# Altium schematic symbol library Schlib1.SchLib: 45 symbols
Pins are listed as number, name and electrical type; pins without a type are passive.

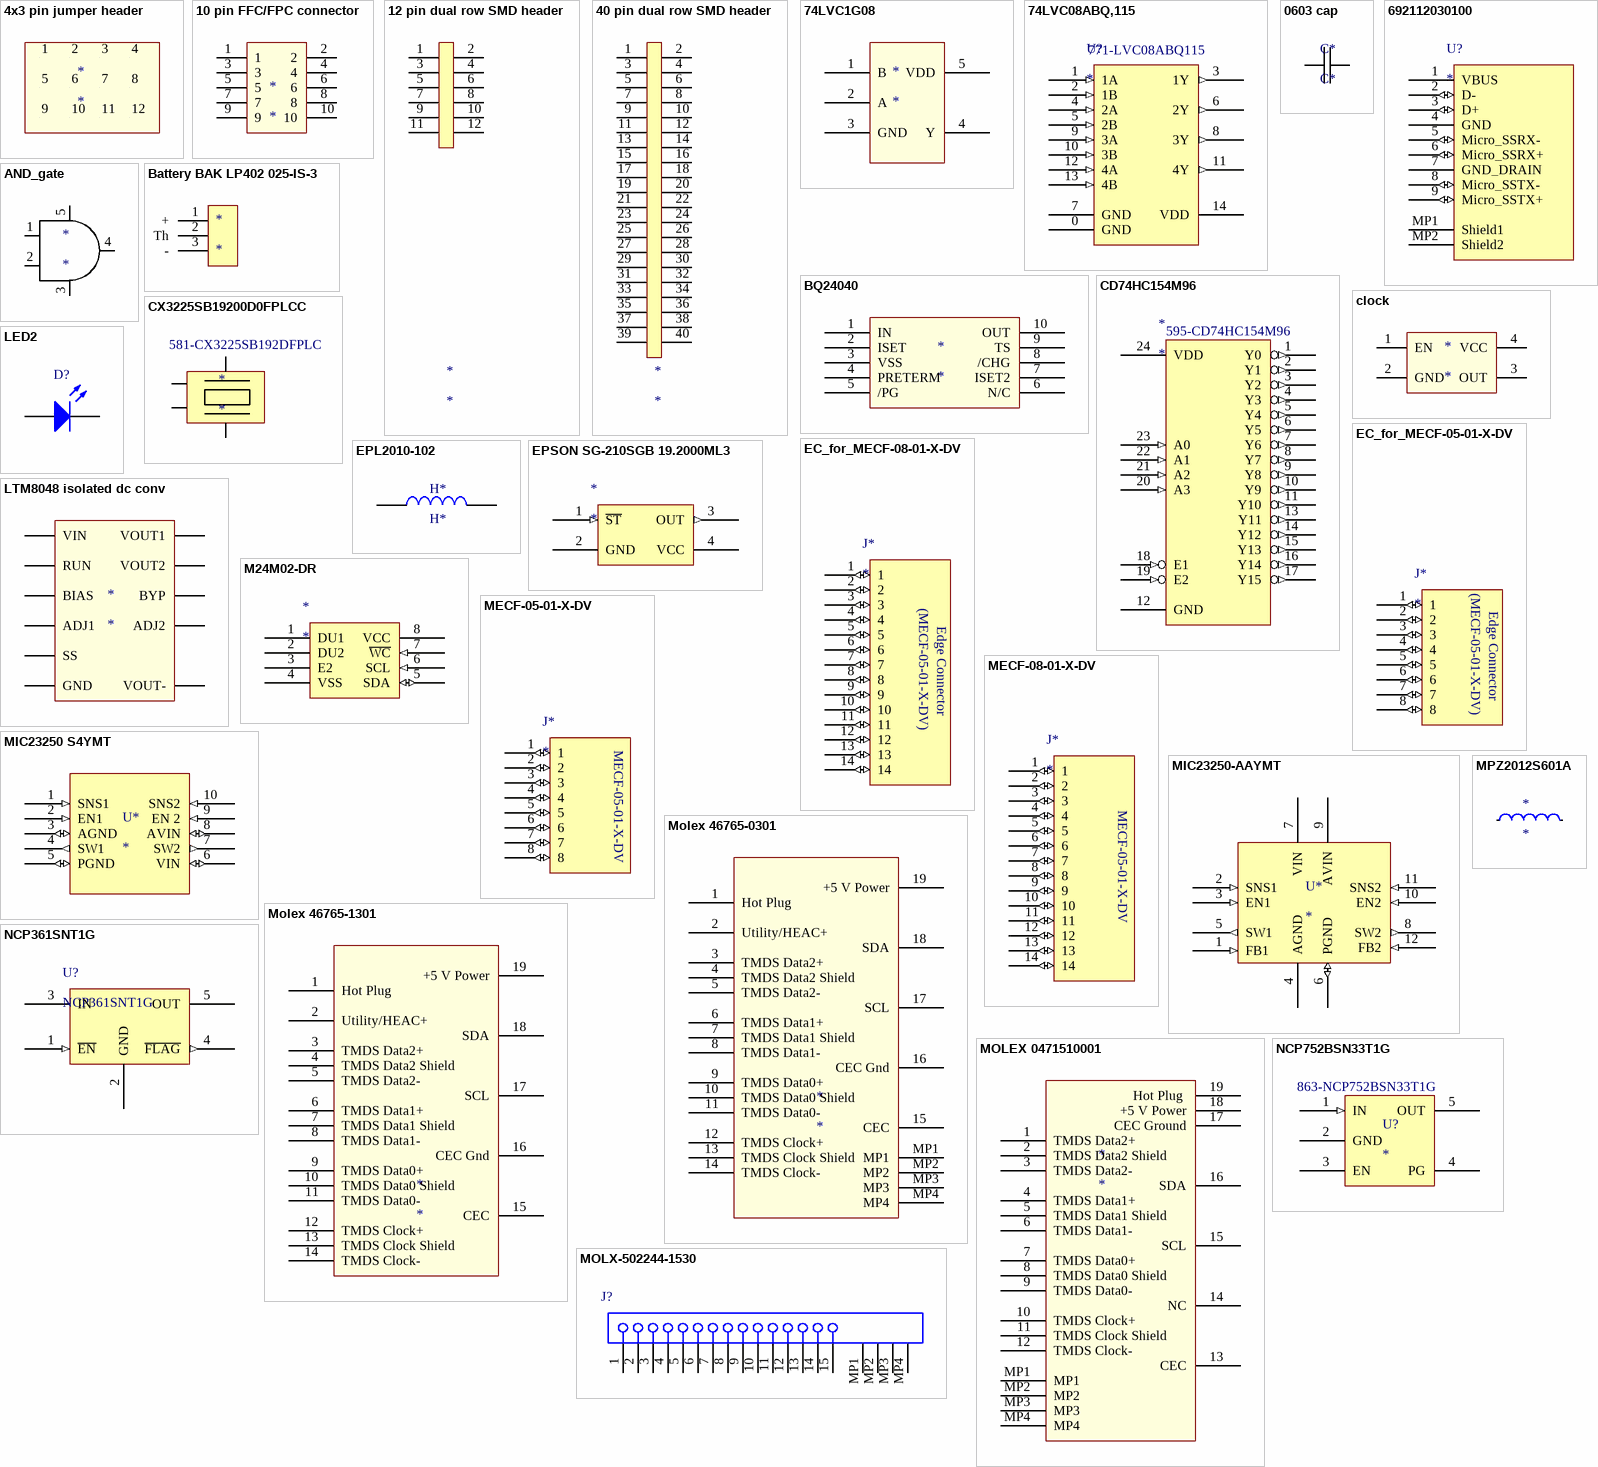
[diagram p0: symbols 4x3 pin jumper header to NCP752BSN33T1G]

## 4x3 pin jumper header
designator *
footprint 4x3 pin jumper header
pins: 1, 2, 3, 4, 5, 6, 7, 8, 9, 10, 11, 12

## 10 pin FFC/FPC connector
designator *
footprint 10 FFC/FPC connector 0.5mm pitch (HIROSE(HRS)  FH34SRJ-10S-0.5SH(50)  CONNECTOR, FFC/FPC, RCPT, 10POS, 1ROW)
pins: 1, 2, 3, 4, 5, 6, 7, 8, 9, 10

## 12 pin dual row SMD header
designator *
header
footprint TSM-106-01-S-DH (12 pin surface mount right angle header)
pins: 1, 2, 3, 4, 5, 6, 7, 8, 9, 10, 11, 12

## 40 pin dual row SMD header
designator *
header
footprint TSM-120-01-L-DH (40 pin surface mount right angle header)
pins: 1, 2, 3, 4, 5, 6, 7, 8, 9, 10, 11, 12, 13, 14, 15, 16, 17, 18, 19, 20, 21, 22, 23, 24, 25, 26, 27, 28, 29, 30, 31, 32, 33, 34, 35, 36, 37, 38, 39, 40

## 74LVC1G08
designator *
single 2 input and gate
footprint TSOP 5 AND (AND gate 74LVCIG08GW)
pins: 1 B "Input B", 2 A "Input B", 3 GND "Input B", 4 Y "Input B", 5 VDD "Input B"

## 74LVC08ABQ,115
designator U?  Supplier Part Number 1: 771-LVC08ABQ115
Logic Gates QUAD 2-INPUT AND; Manufacturer: NXP Semiconductors; Manufacturer Part Number: 74LVC08ABQ,115; Logic Family: LVC; Number of Gates: 4 Gate; Number of Input Lines: 2; Number of Output Lines: 1 Output; High Level Output Current: - 24 mA; Low Level Output Current: 24 mA; Propagation Delay Time: 2.1 ns; Supply Voltage - Max: 3.6 V; Supply Voltage - Min: 1.2 V; Supplier 1: Mouser; RoHS: RoHS Compliant; Category: Logic Gates; Stock 1: 3137; Pricing 1: 1=0.608, 10=0.418, 100=0.240, 1000=0.171, 3000=0.155, 9000=0.144, 24000=0.133, 45000=0.128, 99000=0.123 (AUD); Package / Case: SOT-762; Packaging: Reel; Product: Single-Function Gate; Brand: NXP Semiconductors; Mounting Style: SMD/SMT; Logic Function: AND; Maximum Operating Temperature: + 125 C; Minimum Operating Temperature: - 40 C; Product Category: Logic - Gates & Inverters; Standard Pack Qty: 3000; RoHS - Mouser: Y; Minimum Order Quantity: 1; Reeling: True; ComponentLink1URL: http://www.mouser.com/ds/2/302/74LVC08A-351060.pdf; ComponentLink1Description: http://www.mouser.com/ds/2/302/74LVC08A-351060.pdf
footprint SOT-762 (DHVQFN14: plastic dual in-line compatible thermal enhanced very thin quad flat package; no leads;  14 terminals; body 2.5 x 3 x 0.85 mm)
pins: 0 GND (power), 1 1A (in), 2 1B (in), 3 1Y (out), 4 2A (in), 5 2B (in), 6 2Y (out), 7 GND (power), 8 3Y (out), 9 3A (in), 10 3B (in), 11 4Y (out), 12 4A (in), 13 4B (in), 14 VDD (power)

## 0603 cap
designator C*, comment C*
Value: *
footprint 0603 (0603 metric pad)
pins: 1, 2

## 692112030100
designator U?
USB Connectors WR-COM 3.0 TypeA SMT 9Pin Hztl Male WClip; Manufacturer: Wurth Electronics; Manufacturer Part Number: 692112030100; Connector Type: USB Type A Plug; Current Rating: 1.8 A; Mounting Angle: Horizontal; Number of Contacts: 9 Contact; Voltage Rating: 30 VAC; Number of Ports: 1 Port; Insulation Resistance: 100 MOhms; Product Status: New Technology; Supplier 1: Mouser; RoHS: RoHS Compliant; Category: USB Connectors; Stock 1: 364; Pricing 1: 1=5.46, 10=4.74, 20=4.72, 50=4.46, 100=4.02, 200=3.84, 500=3.65, 1000=3.55, 2000=3.38 (AUD); Color: Blue; Contact Plating: Gold; Gender: Male; Operating Temperature Range: - 20 C to + 85 C; Packaging: Tray; Product: USB Type A Connectors; Series: WR-COM; Termination Style: SMD; Brand: Wurth Electronics; Contact Material: Phosphor Bronze; Flammability Rating: UL 94 V-0; Mounting Style: Panel; Standard: USB 3.0; RoHS - Mouser: Y; Minimum Order Quantity: 1; Reeling: False; ComponentLink1URL: http://www.mouser.com/ds/2/445/692112030100-471927.pdf; ComponentLink1Description: http://www.mouser.com/ds/2/445/692112030100-471927.pdf
footprint USB 3.0 Connectors Type A (USB connectors for 3.0 Type A 9 pin. Male)
pins: 1 VBUS (power), 2 D- (io), 3 D+ (io), 4 GND (power), 5 Micro_SSRX- (io), 6 Micro_SSRX+ (io), 7 GND_DRAIN (power), 8 Micro_SSTX- (io), 9 Micro_SSTX+ (io), MP1 Shield1, MP2 Shield2

## AND_gate
designator *
footprint TSOP5
pins: 1 B "data input", 2 A "data input", 3 GND "ground (0 V)", 4 Y "data output", 5 VCC "supply voltage"

## Battery BAK LP402 025-IS-3
designator *
3.7V lithium polymer battery 165mAh
footprint LP 402 025 (BAK Battery 165mAh)
footprint 3 p in smd header (TSM-103-01-L-SH)
pins: 1 + "positive terminal", 2 Th "Input 1", 3 - "Input 1"

## BQ24040
designator *
Single i/p single cell li-ion / li-pol battery charge
footprint SOIC 10  - BQ24040 (Battery charger IC BQ24040)
pins: 1 IN "Input power. decoupling capacitor of 1 - 10 uF required", 2 ISET "Set fast charge current (resistor to gnd)", 3 VSS "battery gnd terminal", 4 PRETERM "Set current termination threshold (resistor to gnd)", 5 /PG "Low indicates input voltage is above UVLO &  batt voltage", 6 N/C "Input B", 7 ISET2 "Set input/op  current limit for the usb or adaptor source", 8 /CHG "low indicates charging. Open draain indicates no charging", 9 TS "Temperature sense terminal", 10 OUT "Battery connection. Decoupling of 1- 10uF expected"

## CD74HC154M96
designator *  Supplier Part Number 1: 595-CD74HC154M96
Encoders, Decoders, Multiplexers & Demultiplexers Hi-Spd CMOS 4-16 Ln Decoder/Demltplxr; Manufacturer: Texas Instruments; Manufacturer Part Number: CD74HC154M96; Logic Family: HC; Number of Input Lines: 4 Input; Number of Output Lines: 16 Output; Propagation Delay Time: 44 ns; Supply Voltage - Max: 6 V; Supply Voltage - Min: 2 V; Supplier 1: Mouser; RoHS: RoHS Compliant; Category: Encoders, Decoders, Multiplexers & Demultiplexers; Stock 1: 3056; Pricing 1: 1=1.09, 10=0.869, 100=0.648, 500=0.477, 1000=0.435, 2000=0.366, 10000=0.354, 24000=0.341, 50000=0.328 (AUD); Operating Temperature Range: - 55 C to + 125 C; Package / Case: SOIC-24; Packaging: Reel; Product: Decoders / Demultiplexers; Series: CD74HC154; Brand: Texas Instruments; Mounting Style: SMD/SMT; Maximum Operating Temperature: + 125 C; Minimum Operating Temperature: - 55 C; Product Category: Logic - Decoders, Encoders, and Multiplexers; Standard Pack Qty: 2000; RoHS - Mouser: Y; Minimum Order Quantity: 1; Reeling: True; ComponentLink1URL: http://www.mouser.com/ds/2/405/cd74hc154-404200.pdf; ComponentLink1Description: http://www.mouser.com/ds/2/405/cd74hc154-404200.pdf
footprint SOIC24
pins: 1 Y0 (out), 2 Y1 (out), 3 Y2 (out), 4 Y3 (out), 5 Y4 (out), 6 Y5 (out), 7 Y6 (out), 8 Y7 (out), 9 Y8 (out), 10 Y9 (out), 11 Y10 (out), 12 GND (power), 13 Y11 (out), 14 Y12 (out), 15 Y13 (out), 16 Y14 (out), 17 Y15 (out), 18 E1 (in), 19 E2 (in), 20 A3 (in), 21 A2 (in), 22 A1 (in), 23 A0 (in), 24 VDD (power)

## clock
designator *
footprint 7W-4.000MBA-T  1842132 TXC (4MHz clock)
pins: 1 EN, 2 GND, 3 OUT, 4 VCC

## CX3225SB19200D0FPLCC
designator *  Supplier Part Number 1: 581-CX3225SB192DFPLC
19.2MHz SMD Crystal; Manufacturer: AVX / Kyocera; Manufacturer Part Number: CX3225SB19200D0FPLCC; Frequency Stability: 15 PPM; Load Capacitance: 8 pF; Tolerance: 10 PPM; ESR: 80 Ohms; Case Height: 0.55 mm; Case Length: 3.2 mm; Case Width: 2.5 mm; Product Status: New at Mouser; Supplier 1: Mouser; RoHS: RoHS Compliant; Category: Crystals; Stock 1: 2512; Pricing 1: 1=1.22, 10=1.01, 100=0.896, 500=0.803, 1000=0.709, 3000=0.627, 9000=0.605, 24000=0.560 (AUD); Dimensions: 2.5 mm W x 3.2 mm L x 0.55 mm H; Frequency: 19.2 MHz; Operating Temperature Range: - 40 C to + 85 C; Package / Case: 3.2 mm x 2.5 mm; Packaging: Reel; Series: CX3225SB; Termination Style: SMD/SMT; Type: Surface Mount Crystal; Brand: AVX / Kyocera; Mounting Style: SMD/SMT; RoHS - Mouser: Y; Minimum Order Quantity: 1; Reeling: True; ComponentLink1URL: http://www.mouser.com/ds/2/40/cx3225sb_e-514166.pdf; ComponentLink1Description: http://www.mouser.com/ds/2/40/cx3225sb_e-514166.pdf
footprint Crystal 3225 (3.2mm x 2.5mm. Crystal Osc)
pins: 1, 2 (power) "GND", 3, 4 (power) "GND"

## EC_for_MECF-05-01-X-DV
designator J*
Edge Connector for Samtec MECF-05-01-X-DV
footprint Edge Connector for MECF-05-01-X-DV
pins: 1 (io), 2 (io), 3 (io), 4 (io), 5 (io), 6 (io), 7 (io), 8 (io)
text: (MECF-05-01-X-DV); Edge Connector

## EC_for_MECF-08-01-X-DV
designator J*
Edge Connector for Samtec MECF-08-01-X-DV
footprint Edge Connector for MECF-08-01-X-DV
pins: 1 (io), 2 (io), 3 (io), 4 (io), 5 (io), 6 (io), 7 (io), 8 (io), 9 (io), 10 (io), 11 (io), 12 (io), 13 (io), 14 (io)
text: (MECF-05-01-X-DV); Edge Connector

## EPL2010-102
designator H*, comment H*
1uH inductor
footprint EPL2010-102 (1uH SMD inductor EPL2010-102)
pins: 1, 2

## EPSON SG-210SGB 19.2000ML3
designator *
footprint SG-210S*B (CMOS Output CRYSTAL OSCILLATOR (SPXO))
pins: 1 ~{ST} (in) "Standby", 2 GND (power) "Ground", 3 OUT (out) "CLK OUT", 4 VCC (power)

## LED2
designator D?
Typical RED, GREEN, YELLOW, AMBER GaAs LED; Published: 8-Jun-2000; LatestRevisionDate: 17-Jul-2002; LatestRevisionNote: Re-released for DXP Platform.; PackageVersion: Feb-2002; PackageReference: 3.2X1.6X1.1; Publisher: Altium Limited; PackageDescription: SM LED; 2 Flat Leads
footprint LED 0610
pins: 1 A, 2 K

## LTM8048 isolated dc conv
designator *
footprint 45 pad BGA LTM8048 (LTM8048 isolated µModule DC/DC Converter   with LDO Post Regulator)
pins: A2 ADJ2, B2 BYP, F3 RUN, G7 ADJ1, GND, H5 BIAS, H6 SS, VIN, VOUT1, VOUT2, VOUT-

## M24M02-DR
designator *
Manufacturer: STMicroelectronics; Manufacturer Part Number: M24M02-DRMN6TP; Memory Size: 2 Mbit; Organization: 256 k x 8; Interface Type: Serial, 2-Wire, I2C; Supply Current - Max: 2.5 mA; Data Retention: 200 Years; Maximum Clock Frequency: 1 MHz; Operating Supply Voltage: 1.8 V to 5.5 V; Supplier 1: Mouser; RoHS: RoHS Compliant; Category: EEPROM; Stock 1: 1850; Pricing 1: 1=7.17, 10=5.76, 100=5.12, 250=4.74, 500=4.26, 1000=3.58, 2500=3.41, 5000=3.28 (AUD); Package / Case: SO-8; Packaging: Reel; Series: M24M02-DR; Brand: STMicroelectronics; Mounting Style: SMD/SMT; Maximum Operating Temperature: + 85 C; Product Category: Serial EEPROMs; Standard Pack Qty: 2500; RoHS - Mouser: Y; Minimum Order Quantity: 1; Reeling: True; ComponentLink1URL: http://www.mouser.com/ds/2/389/CD00290537-470808.pdf; ComponentLink1Description: http://www.mouser.com/ds/2/389/CD00290537-470808.pdf; Supplier Part Number 1: 511-M24M02-DRMN6TP
footprint SO8N
pins: 1 DU1, 2 DU2, 3 E2 "Chip Enable", 4 VSS (power), 5 SDA (io), 6 SCL (in), 7 ~{WC} (in), 8 VCC (power)

## MECF-05-01-X-DV
designator J*
Samtec MECF-05-01-X-DV
footprint MECF-05-01-X-DV (Samtec MECF-05-01-X-DV)
pins: 1 (io), 2 (io), 3 (io), 4 (io), 5 (io), 6 (io), 7 (io), 8 (io)

## MECF-08-01-X-DV
designator J*
Samtec MECF-08-01-X-DV
footprint MECF-08-01-X-DV (Samtec MECF-08-01-X-DV)
pins: 1 (io), 2 (io), 3 (io), 4 (io), 5 (io), 6 (io), 7 (io), 8 (io), 9 (io), 10 (io), 11 (io), 12 (io), 13 (io), 14 (io)
text: MECF-05-01-X-DV

## MIC23250 S4YMT
designator U*
Light load dual buck converter
footprint Model Name (Footprint not found)
footprint MLF10 (MIC23250 light load buck converter 2 output)
pins: 1 SNS1 (in) "error amplifier input 1", 2 EN1 (in) "enable 1", 3 AGND (io) "analog gnd", 4 SW1 (out) "switch node 1", 5 PGND (io) "Power ground", 6 VIN (io) "supply voltage", 7 SW2 (out) "switch node 2", 8 AVIN (io) "Analog power input", 9 EN 2 (in) "enable 2", 10 SNS2 (in) "error amplifier input 2"

## MIC23250-AAYMT
designator U*
MIC23250 Dual dc converter
footprint MFL12 or SON12 (MIC23250 Adjustable dual dc - dc converter)
pins: 1 FB1 (in) "error amplifier input 1", 2 SNS1 (in) "enable 1", 3 EN1 (in) "analog gnd", 4 AGND (power) "switch node 1", 5 SW1 (out) "Power ground", 6 PGND (io) "supply voltage", 7 VIN (power) "switch node 2", 8 SW2 (out) "Analog power input", 9 AVIN (power) "enable 2", 10 EN2 (in) "error amplifier input 2", 11 SNS2 (in), 12 FB2 (in)

## Molex 46765-0301
designator *
Micro HDMI
footprint MOLEX 0467650301 (Micro HDMI without holes)
pins: 1 Hot Plug , 2 Utility/HEAC+ "N.C. on device", 3 TMDS Data2+, 4 TMDS Data2 Shield, 5 TMDS Data2-, 6 TMDS Data1+, 7 TMDS Data1 Shield, 8 TMDS Data1-, 9 TMDS Data0+, 10 TMDS Data0 Shield, 11 TMDS Data0-, 12 TMDS Clock+, 13 TMDS Clock Shield, 14 TMDS Clock-, 15 CEC "control", 16 CEC Gnd, 17 SCL "DDC clock", 18 SDA "DDC data", 19 +5 V Power "power EDID/DDC", MP1, MP2, MP3, MP4

## Molex 46765-1301
designator *
Micro HDMI
footprint Molex 46765-1301 (Micro HDMI)
pins: 1 Hot Plug , 2 Utility/HEAC+ "N.C. on device", 3 TMDS Data2+, 4 TMDS Data2 Shield, 5 TMDS Data2-, 6 TMDS Data1+, 7 TMDS Data1 Shield, 8 TMDS Data1-, 9 TMDS Data0+, 10 TMDS Data0 Shield, 11 TMDS Data0-, 12 TMDS Clock+, 13 TMDS Clock Shield, 14 TMDS Clock-, 15 CEC "control", 16 CEC Gnd, 17 SCL "DDC clock", 18 SDA "DDC data", 19 +5 V Power "power EDID/DDC"

## MOLEX 0471510001
designator *
MOLEX 0471510001 hdmi connector
footprint MOLEX 0471510001 (HDMI connector)
pins: 1 TMDS Data2+, 2 TMDS Data2 Shield, 3 TMDS Data2-, 4 TMDS Data1+, 5 TMDS Data1 Shield, 6 TMDS Data1-, 7 TMDS Data0+, 8 TMDS Data0 Shield, 9 TMDS Data0-, 10 TMDS Clock+, 11 TMDS Clock Shield, 12 TMDS Clock-, 13 CEC "control", 14 NC "N.C. on device", 15 SCL "DDC clock", 16 SDA "DDC data", 17 CEC Ground, 18 +5 V Power "power EDID/DDC", 19 Hot Plug , MP1 (power), MP2 (power), MP3 (power), MP4 (power)

## MOLX-502244-1530
designator J?
footprint MOLX-502244-1530 (FFC Connector, 15-Leads, Right Angle, Pitch 0.5 mm, Mated Height 2.33 mm, SMT)
pins: 1, 2, 3, 4, 5, 6, 7, 8, 9, 10, 11, 12, 13, 14, 15, MP1, MP2, MP3, MP4

## MPZ2012S601A
designator *
footprint 0805
pins: 1, 2

## NCP361SNT1G
designator U?
Current & Power Monitors & Regulators SBN POSITIVE OVP WITH OCP; Manufacturer: ON Semiconductor; Sensing Method: High Side; Input Voltage Range: 1.2 V to 20 V; Operating Supply Current: 20 uA; Supply Voltage - Max: 20 V; Supply Voltage - Min: 1.2 V; Supplier 1: Mouser; Manufacturer Part Number: NCP361SNT1G; RoHS: RoHS Compliant; Category: Current & Power Monitors & Regulators; Stock 1: 1757; Pricing 1: 1=1.15, 10=0.893, 100=0.576, 1000=0.461, 3000=0.389, 9000=0.374, 24000=0.360, 45000=0.354 (AUD); Operating Temperature Range: - 40 C to + 85 C; Package / Case: TSOP-5; Packaging: Reel; Product: Power Monitors; Series: NCP361; Brand: ON Semiconductor; Mounting Style: SMD/SMT; Product Category: Off-Line Controllers; Standard Pack Qty: 3000; RoHS - Mouser: Y; Minimum Order Quantity: 1; Reeling: True; ComponentLink1URL: http://www.mouser.com/ds/2/308/NCP361-D-60033.pdf; ComponentLink1Description: http://www.mouser.com/ds/2/308/NCP361-D-60033.pdf; Supplier Part Number 1: 863-NCP361SNT1G
footprint TSOP5
pins: 1 ~{EN} (in), 2 GND (power), 3 IN (power), 4 ~{FLAG} (out), 5 OUT (power)

## NCP752BSN33T1G
designator U?  Supplier Part Number 1: 863-NCP752BSN33T1G
LDO Voltage Regulators 200 MA LDO, ULTRA, LOW IQ; Manufacturer: ON Semiconductor; Manufacturer Part Number: NCP752BSN33T1G; Input Voltage MAX: 5.5 V; Number of Outputs: 1 Output; Output Current: 200 mA; Output Type: Fixed; Output Voltage: 3.3 V; Dropout Voltage - Max: 200 mV at 200 mA; PSRR / Ripple Rejection - Typ: 68 dB; Voltage Regulation Accuracy: 2 %; Input Voltage MIN: 2 V; Line Regulation: 300 uV/V; Load Regulation: 20 uV/mA; Operating Supply Current: 12 uA; Product Status: New at Mouser; Supplier 1: Mouser; RoHS: RoHS Compliant; Category: LDO Voltage Regulators; Stock 1: 2765; Pricing 1: 1=1.41, 10=1.09, 100=0.704, 1000=0.563, 3000=0.475, 9000=0.458, 24000=0.440 (AUD); Package / Case: TSOP-5; Packaging: Reel; Product: LDO Regulators; Series: NCP752; Type: Ultra Low Noise; Brand: ON Semiconductor; Mounting Style: SMD/SMT; Maximum Operating Temperature: + 125 C; Minimum Operating Temperature: - 40 C; RoHS - Mouser: Y; Minimum Order Quantity: 1; Reeling: True; ComponentLink1URL: http://www.mouser.com/ds/2/308/NCP752-D-364327.pdf; ComponentLink1Description: http://www.mouser.com/ds/2/308/NCP752-D-364327.pdf
footprint TSOP5
pins: 1 IN (in) "Input pin. A small capacitor is needed from this pin to ground to ensure stability", 2 GND "gnd", 3 EN "Enable", 4 PG "Power good (high impedance when power is good, short to gnd when power drops)", 5 OUT "regulated op. A small 1uF ceramic cap is needed to assure stability"

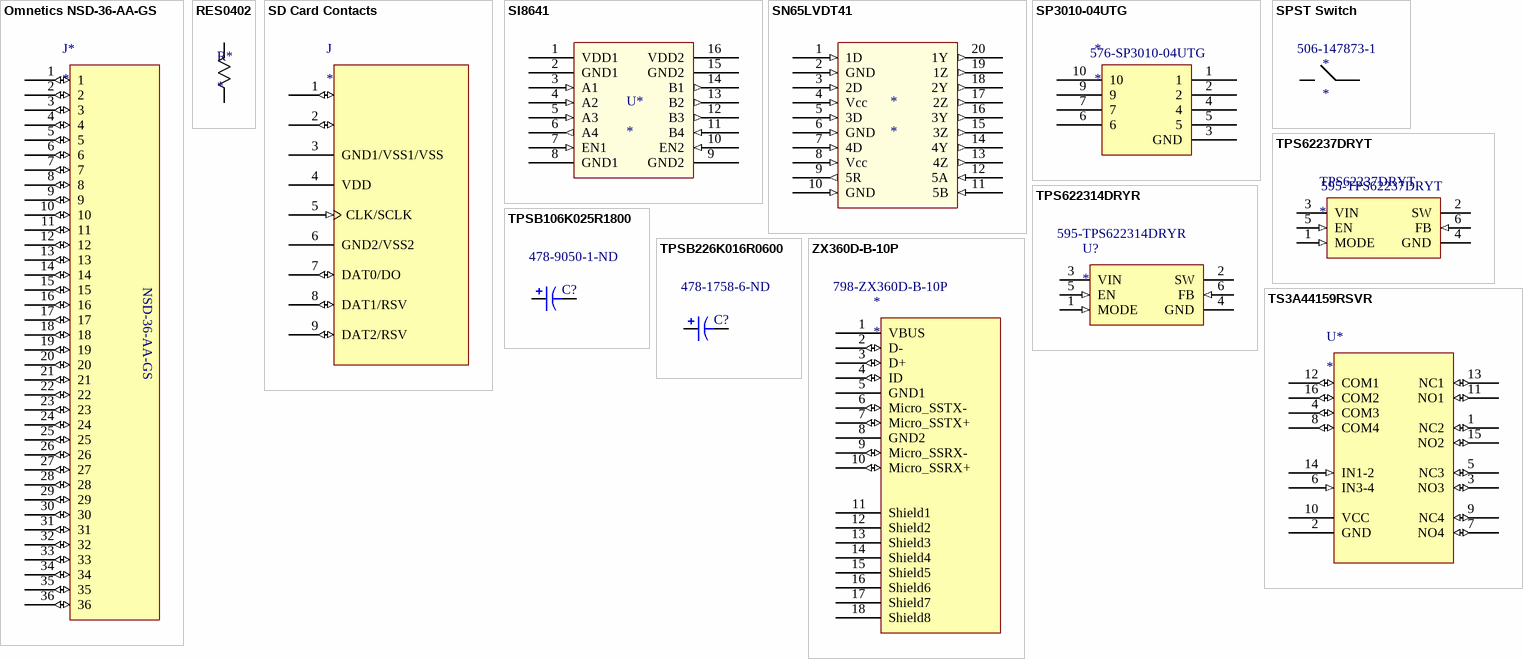
[diagram p1: symbols Omnetics NSD-36-AA-GS to ZX360D-B-10P]

## Omnetics NSD-36-AA-GS
designator J*
NSD-36-AA-GS; Part Number: A79025-001
footprint NSD-36-AA-GS
pins: 1 (io), 2 (io), 3 (io), 4 (io), 5 (io), 6 (io), 7 (io), 8 (io), 9 (io), 10 (io), 11 (io), 12 (io), 13 (io), 14 (io), 15 (io), 16 (io), 17 (io), 18 (io), 19 (io), 20 (io), 21 (io), 22 (io), 23 (io), 24 (io), 25 (io), 26 (io), 27 (io), 28 (io), 29 (io), 30 (io), 31 (io), 32 (io), 33 (io), 34 (io), 35 (io), 36 (io)

## RES0402
designator R*
RES0402; Value: *
footprint 0402RES (Chip Resistor, 2-Leads, Body 1.00x0.50mm, IPC Medium Density)
pins: 1, 2

## SD Card Contacts
designator J
SD Card Contacts and dimensions
footprint SD Card (SD Card Contacts and Dimensions)
pins: 1 CD/DAT3/CS (io) "card-detect / data line (bit3) / chip select (active low)", 2 CMD/DI (io) "command/response/data in", 3 GND1/VSS1/VSS (power) "supply voltage ground", 4 VDD (power) "supply voltage", 5 CLK/SCLK (in) "clock", 6 GND2/VSS2 (power) "supply voltage ground", 7 DAT0/DO (io) "data line (bit 0) / data out", 8 DAT1/RSV (io) "data line (bit 1)/reserved", 9 DAT2/RSV (io) "data line (bit 2)/reserved"

## SI8641
designator U*
Low power quad channel digital isolator 3 drivers 1 receiver
footprint Narrow SOIC 16 (SI8641 narrow digital isolator)
pins: 1 VDD1, 2 GND1, 3 A1 (in), 4 A2 (in), 5 A3 (in), 6 A4 (out), 7 EN1 (in), 8 GND1, 9 GND2, 10 EN2 (in), 11 B4 (in), 12 B3 (out), 13 B2 (out), 14 B1 (out), 15 GND2, 16 VDD2

## SN65LVDT41
designator *
Single ended to LVDS 4 * driver 1 * receiver
footprint SOP 20 pin (LVDS 4 channel SN65LVDT41)
pins: 1 1D (in) "Input 1", 2 GND (in) "gnd", 3 2D (in) "Input 2", 4 Vcc (in), 5 3D (in) "Input 3", 6 GND (in), 7 4D (in) "Input 4", 8 Vcc (in) "vcc", 9 5R (out) "OP 5", 10 GND (in), 11 5B (in) "Input 5B", 12 5A (in) "Input 5A", 13 4Z (out) "OUTPUT 4Z", 14 4Y (out) "OUTPUT 4Y", 15 3Z (out) "OUTPUT 3Z", 16 3Y (out) "OUTPUT 3Y", 17 2Z (out) "OUTPUT 2Z", 18 2Y (out) "OUTPUT 2Y", 19 1Z (out) "OUTPUT 1Z", 20 1Y (out) "OUTPUT 1Y"

## SP3010-04UTG
designator *  Supplier Part Number 1: 576-SP3010-04UTG
Manufacturer: Littelfuse; Manufacturer Part Number: SP3010-04UTG; Breakdown Voltage: 6 V; Capacitance: 0.45 pF; Clamping Voltage: 12.3 V; Number of Channels: 4 Channel; Peak Surge Current: 3 A; Polarity: Bidirectional; Supplier 1: Mouser; RoHS: RoHS Compliant; Category: TVS Diode Arrays; Stock 1: 7057; Pricing 1: 1=1.54, 10=1.19, 100=0.768, 1000=0.614, 3000=0.518, 9000=0.499, 24000=0.480 (AUD); Dimensions: 1 mm W x 2.5 mm L x 0.515 mm H; Package / Case: uDFN-10; Packaging: Reel; Series: SP3010; Termination Style: SMD/SMT; Brand: Littelfuse; Mounting Style: SMD/SMT; Maximum Operating Temperature: + 125 C; Minimum Operating Temperature: - 55 C; Standard Pack Qty: 3000; Tradename: SPA; RoHS - Mouser: Y; Minimum Order Quantity: 1; Reeling: True; ComponentLink1URL: http://www.mouser.com/ds/2/240/Littelfuse_SPA_SP3010-62442.pdf; ComponentLink1Description: http://www.mouser.com/ds/2/240/Littelfuse_SPA_SP3010-62442.pdf
footprint uDFN-10 (2.5 x 1.0 x 0.5 mm)
pins: 1, 2, 3 GND (power), 4, 5, 6, 7, 9, 10

## SPST Switch
designator *  Supplier Part Number 1: 506-147873-1
SPST switch; Manufacturer: TE Connectivity / Alcoswitch; Manufacturer Part Number: 147873-1; Actuator: Rectangular; Current Rating: 50 mA; Illumination: None; Switch Function: OFF - (ON); Voltage Rating DC: 24 V; Cap Color: Brown; Life: 40000 Cycles; Supplier 1: Mouser; RoHS: RoHS Compliant; Category: Pushbutton Switches; Stock 1: 11328; Pricing 1: 1=0.368, 10=0.342, 25=0.328, 50=0.291, 100=0.272, 200=0.250, 500=0.240, 1000=0.226, 1800=0.216 (AUD); Contact Form: SPST; Contact Plating: Silver; Height: 5 mm; Material: Polyamide; Packaging: Reel; Termination Style: Solder Pin; Brand: TE Connectivity / Alcoswitch; Flammability Rating: UL 94 V-0; Mounting Style: SMD/SMT; Product Category: Pushbutton Switches; Standard Pack Qty: 1800; RoHS - Mouser: Y; Minimum Order Quantity: 1; Reeling: True; ComponentLink1URL: http://www.mouser.com/ds/2/418/NG_CD_147873_K3-196492.pdf; ComponentLink1Description: http://www.mouser.com/ds/2/418/NG_CD_147873_K3-196492.pdf
footprint 506-147873-1 (SPST switch (N.O. ,momentary on))
pins: 1, 2

## TPS62237DRYT
designator TPS62237DRYT  Supplier Part Number 1: 595-TPS62237DRYT
Voltage Regulators - Switching Regulators 3MHz,500mA Step- Down Converter; PartNumber: TPS622314DRY; Manufacturer: Texas Instruments; Manufacturer Part Number: TPS622314DRYR; CompType: IC; PIN_COUNT: 6; Input Voltage: 2.05 V to 6 V; Input Voltage MAX: 6 V; Number of Outputs: 1 Output; Output Voltage: 1.5 V; Topology: Buck; Input Voltage MIN: 2.05 V; PackageReference: DRY0006A; MountType: SMT; RoHS: Y; RefDes: RefDes; Type: DEV; Value: Value; Category: Voltage Regulators - Switching Regulators; Operating Temperature Range: - 40 C to + 85 C; Output Current: 500 mA; Package / Case: USON-6; Packaging: Reel; Series: TPS622314; Brand: Texas Instruments; Mounting Style: SMD/SMT; Switching Frequency: 3 MHz; Maximum Operating Temperature: + 85 C; Minimum Operating Temperature: - 40 C; Product Category: Converters - DC/DC; Standard Pack Qty: 5000; RoHS - Mouser: Y; Minimum Order Quantity: 5000; Reeling: True; ComponentLink1URL: http://www.mouser.com/ds/2/405/tps622314-448767.pdf; ComponentLink1Description: http://www.mouser.com/ds/2/405/tps622314-448767.pdf; Supplier 1: Mouser
footprint DRY0006A
pins: 1 MODE (in), 2 SW (power), 3 VIN (power), 4 GND (power), 5 EN (in), 6 FB (in)

## TPS622314DRYR
designator U?  Supplier Part Number 1: 595-TPS622314DRYR
Voltage Regulators - Switching Regulators 3MHz,500mA Step- Down Converter; PartNumber: TPS622314DRY; Manufacturer: Texas Instruments; Manufacturer Part Number: TPS622314DRYR; CompType: IC; PIN_COUNT: 6; Input Voltage: 2.05 V to 6 V; Input Voltage MAX: 6 V; Number of Outputs: 1 Output; Output Voltage: 1.5 V; Topology: Buck; Input Voltage MIN: 2.05 V; PackageReference: DRY0006A; MountType: SMT; RoHS: Y; RefDes: RefDes; Type: DEV; Value: Value; Supplier 1: Mouser; Category: Voltage Regulators - Switching Regulators; Stock 1: 0; Pricing 1: 5000=0.901 (AUD); Operating Temperature Range: - 40 C to + 85 C; Output Current: 500 mA; Package / Case: USON-6; Packaging: Reel; Series: TPS622314; Brand: Texas Instruments; Mounting Style: SMD/SMT; Switching Frequency: 3 MHz; Maximum Operating Temperature: + 85 C; Minimum Operating Temperature: - 40 C; Product Category: Converters - DC/DC; Standard Pack Qty: 5000; RoHS - Mouser: Y; Minimum Order Quantity: 5000; Reeling: True; ComponentLink1URL: http://www.mouser.com/ds/2/405/tps622314-448767.pdf; ComponentLink1Description: http://www.mouser.com/ds/2/405/tps622314-448767.pdf
footprint DRY0006A
pins: 1 MODE (in), 2 SW (power), 3 VIN (power), 4 GND (power), 5 EN (in), 6 FB (in)

## TPSB106K025R1800
designator C?  Supplier Part Number 1: 478-9050-1-ND
CAP TANT 10UF 25V 10% 1210; Manufacturer: AVX Corporation; Manufacturer Part Number: TPSB106K025R1800; Manufacturer Size Code: B; Capacitance: 10µF; ESR (Equivalent Series Resistance): 1.8 Ohm; Type: Molded; Supplier 1: Digi-Key; RoHS: RoHS Compliant; Category: Capacitors; Stock 1: 9061; Pricing 1: 1=0.8, 10=0.655, 100=0.4631, 250=0.38324, 500=0.3433, 1000=0.31935 (GBP); Packaging: Cut Tape (CT); Tolerance: ±10%; Voltage - Rated: 25V; Operating Temperature: -55°C ~ 125°C; Mounting Type: Surface Mount; Package / Case: 1210 (3528 Metric); Size / Dimension: 0.138" L x 0.110" W (3.50mm x 2.80mm); Height - Seated (Max): 0.083" (2.10mm); Lead Spacing: -; Features: General Purpose; Lifetime @ Temp.: -; ComponentLink1URL: http://www.avx.com/docs/Catalogs/tps.pdf; ComponentLink1Description: http://www.avx.com/docs/Catalogs/tps.pdf
footprint AVX-CAPC3528_V (SMT Capacitor, 2 Leads, Body 3.5x2.8mm)
pins: 1, 2

## TPSB226K016R0600
designator C?  Supplier Part Number 1: 478-1758-6-ND
CAP TANT 22UF 16V 10% 1210; Manufacturer: AVX Corporation; Manufacturer Part Number: TPSB226K016R0600; Manufacturer Size Code: B; Capacitance: 22µF; ESR (Equivalent Series Resistance): 600 mOhm; Type: Molded; Supplier 1: Digi-Key; RoHS: RoHS Compliant; Category: Capacitors; Stock 1: 22171; Pricing 1: 1=0.72, 10=0.6, 100=0.3832, 250=0.31936, 500=0.28742, 1000=0.26187 (GBP); Packaging: Digi-Reel®; Tolerance: ±10%; Voltage - Rated: 16V; Operating Temperature: -55°C ~ 125°C; Mounting Type: Surface Mount; Package / Case: 1210 (3528 Metric); Size / Dimension: 0.138" L x 0.110" W (3.50mm x 2.80mm); Height - Seated (Max): 0.083" (2.10mm); Lead Spacing: -; Features: General Purpose; Lifetime @ Temp.: -; ComponentLink1URL: http://www.avx.com/docs/Catalogs/tps.pdf; ComponentLink1Description: http://www.avx.com/docs/Catalogs/tps.pdf
footprint AVX-CAPC3528_V (SMT Capacitor, 2 Leads, Body 3.5x2.8mm)
pins: 1, 2

## TS3A44159RSVR
designator U*
0.45-Ω Quad SPDT Analog Switch 4-Channel 2:1 Multiplexer – Demultiplexer  With Two Controls
footprint UQFN-4
footprint SOP16; pin to pad 1>3 2>4 3>5 4>6 5>7 6>8 7>9 8>10 9>11 10>12 11>13 12>14 13>15 14>16 15>1 16>2
footprint Quad16; pin to pad 1>5 2>6 3>7 4>8 5>9 6>10 7>11 8>12 9>13 10>14 11>15 12>16 13>1 14>2 15>3 16>4
pins: 1 NC2 (io) "Normally Closed", 2 GND (power) "Ground", 3 NO3 (io) "Normally Open", 4 COM3 (io) "Common", 5 NC3 (io) "Normally Closed", 6 IN3-4 (in) "Digital Control to connect COM to NO or NC", 7 NO4 (io) "Normally Open", 8 COM4 (io) "Common", 9 NC4 (io) "Normally Closed", 10 VCC (power) "Power Supply", 11 NO1 (io) "Normally Open", 12 COM1 (io) "Common", 13 NC1 (io) "Nomarlly Closed", 14 IN1-2 (in) "Digital Control to connect COM to NO or NC", 15 NO2 (io) "Normally Open", 16 COM2 (io) "Common"

## ZX360D-B-10P
designator *  Supplier Part Number 1: 798-ZX360D-B-10P
Manufacturer: Hirose Connector; Manufacturer Part Number: ZX360D-B-10P; Connector Type: Micro USB Type B Receptacle; Current Rating: 1 A; Gender: Female; Number of Contacts: 10 Contact; Number of Ports: 2 Port; Product Status: New Technology; Supplier 1: Mouser; RoHS: RoHS Compliant; Category: USB Connectors; Stock 1: 17868; Pricing 1: 1=2.83, 10=2.32, 100=2.21, 250=2.00, 500=1.84, 1000=1.58, 3000=1.48, 6000=1.40, 9000=1.37 (AUD); Contact Plating: Gold; Packaging: Reel; Product: USB Plug Kit; Series: ZX360; Termination Style: Solder; Brand: Hirose Connector; Contact Material: Stainless Steel; Product Category: USB Connectors and Assemblies; Standard: USB 3.0; Standard Pack Qty: 3000; RoHS - Mouser: Y; Minimum Order Quantity: 1; Reeling: True; ComponentLink1URL: http://www.mouser.com/ds/2/185/ZX360D-B-10P_drawing_EDC3-127028-00-190959.pdf; ComponentLink1Description: http://www.mouser.com/ds/2/185/ZX360D-B-10P_drawing_EDC3-127028-00-190959.pdf
footprint USB3 Micro-TypeB
pins: 1 VBUS (power), 2 D- (io), 3 D+ (io), 4 ID (io), 5 GND1 (power), 6 Micro_SSTX- (io), 7 Micro_SSTX+ (io), 8 GND2 (power), 9 Micro_SSRX- (io), 10 Micro_SSRX+ (io), 11 Shield1, 12 Shield2, 13 Shield3, 14 Shield4, 15 Shield5, 16 Shield6, 17 Shield7, 18 Shield8